# Altium footprint library DIP-CN  0607.PcbLib: 329 footprints (part 3 of 21)
Each footprint in its own frame and in the unit in brackets; x right, y up, seen from the top. Pads: shape width x height; smd on the part's side, far side on the other; paste and mask are expansions set on the pad; w line width, h text height; cw(c..) or ccw(c..) is an arc to the next point about the centre after c.
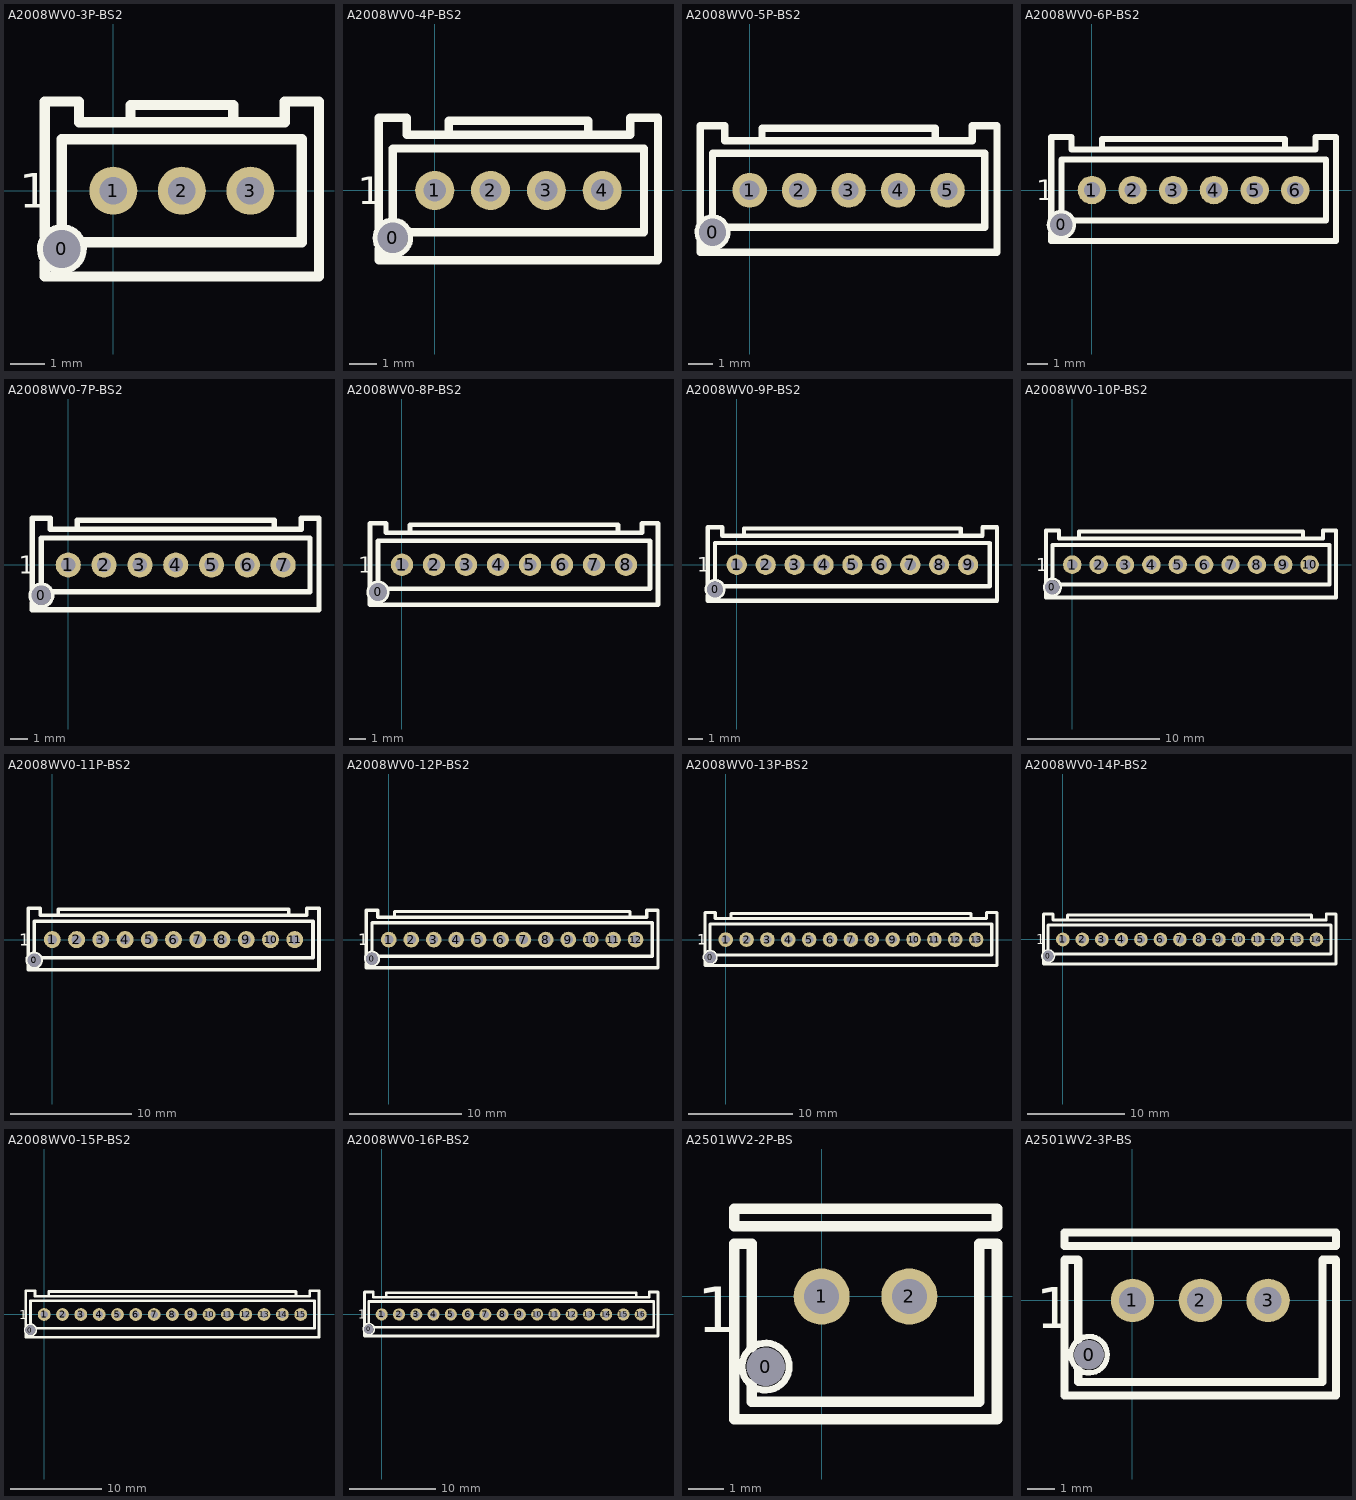
[diagram p2: the footprints below, top view; thin cyan lines are the x and y axes]

## A2008WV0-3P-BS2 [mm]
pads (4):
  round 1 hole 1.1 unplated: 0(-1.5,-1.7)
  round 1.4 hole 0.8: 1(0,0) 2(2,0) 3(4,0)
TopOverlay:
  lines w0.2: -1.974,-2.111 cw(c-1.5,-1.7) -1.962,-2.124
  lines w0.3: -2,-2.1 -2,-2.5 6,-2.5 6,2.6 5,2.6 5,2 -1,2 -1,2.6 -2,2.6 -2,-1.3 ; -1.5,-1 -1.5,1.5 5.5,1.5 5.5,-1.5 -0.9,-1.5 ; 0.5,2 0.5,2.5 3.5,2.5 3.5,2
  text "1" at -2.75,-0.5 h1
BottomOverlay:
  lines w0.3: 1,-0.75 1,0.75 ; 3,-0.75 3,0.75

## A2008WV0-4P-BS2 [mm]
pads (5):
  round 1 hole 1.1 unplated: 0(-1.5,-1.7)
  round 1.4 hole 0.8: 1(0,0) 2(2,0) 3(4,0) 4(6,0)
TopOverlay:
  lines w0.2: -1.974,-2.111 cw(c-1.5,-1.7) -1.962,-2.124
  lines w0.3: -2,-2.1 -2,-2.5 8,-2.5 8,2.6 7,2.6 7,2 -1,2 -1,2.6 -2,2.6 -2,-1.3 ; -1.5,-1 -1.5,1.5 7.5,1.5 7.5,-1.5 -0.9,-1.5 ; 0.5,2 0.5,2.5 5.5,2.5 5.5,2
  text "1" at -2.75,-0.5 h1
BottomOverlay:
  lines w0.3: 1,-0.75 1,0.75 ; 3,-0.75 3,0.75 ; 5,-0.75 5,0.75

## A2008WV0-5P-BS2 [mm]
pads (6):
  round 1 hole 1.1 unplated: 0(-1.5,-1.7)
  round 1.4 hole 0.8: 1(0,0) 2(2,0) 3(4,0) 4(6,0) 5(8,0)
TopOverlay:
  lines w0.2: -1.974,-2.111 cw(c-1.5,-1.7) -1.962,-2.124
  lines w0.3: -2,-2.1 -2,-2.5 10,-2.5 10,2.6 9,2.6 9,2 -1,2 -1,2.6 -2,2.6 -2,-1.3 ; -1.5,-1 -1.5,1.5 9.5,1.5 9.5,-1.5 -0.9,-1.5 ; 0.5,2 0.5,2.5 7.5,2.5 7.5,2
BottomOverlay:
  lines w0.3: 1,-0.75 1,0.75 ; 3,-0.75 3,0.75 ; 5,-0.75 5,0.75 ; 7,-0.75 7,0.75

## A2008WV0-6P-BS2 [mm]
pads (7):
  round 1 hole 1.1 unplated: 0(-1.5,-1.7)
  round 1.4 hole 0.8: 1(0,0) 2(2,0) 3(4,0) 4(6,0) 5(8,0) 6(10,0)
TopOverlay:
  lines w0.2: -1.974,-2.111 cw(c-1.5,-1.7) -1.962,-2.124
  lines w0.3: -2,-2.1 -2,-2.5 12,-2.5 12,2.6 11,2.6 11,2 -1,2 -1,2.6 -2,2.6 -2,-1.3 ; -1.5,-1 -1.5,1.5 11.5,1.5 11.5,-1.5 -0.9,-1.5 ; 0.5,2 0.5,2.5 9.5,2.5 9.5,2
  text "1" at -2.75,-0.5 h1
BottomOverlay:
  lines w0.3: 1,-0.75 1,0.75 ; 3,-0.75 3,0.75 ; 5,-0.75 5,0.75 ; 7,-0.75 7,0.75 ; 9,-0.75 9,0.75

## A2008WV0-7P-BS2 [mm]
pads (8):
  round 1 hole 1.1 unplated: 0(-1.5,-1.7)
  round 1.4 hole 0.8: 1(0,0) 2(2,0) 3(4,0) 4(6,0) 5(8,0) 6(10,0) 7(12,0)
TopOverlay:
  lines w0.2: -1.974,-2.111 cw(c-1.5,-1.7) -1.962,-2.124
  lines w0.3: -2,-2.1 -2,-2.5 14,-2.5 14,2.6 13,2.6 13,2 -1,2 -1,2.6 -2,2.6 -2,-1.3 ; -1.5,-1 -1.5,1.5 13.5,1.5 13.5,-1.5 -0.9,-1.5 ; 0.5,2 0.5,2.5 11.5,2.5 11.5,2
  text "1" at -2.75,-0.5 h1
BottomOverlay:
  lines w0.3: 1,-0.75 1,0.75 ; 3,-0.75 3,0.75 ; 5,-0.75 5,0.75 ; 7,-0.75 7,0.75 ; 9,-0.75 9,0.75 ; 11,-0.75 11,0.75

## A2008WV0-8P-BS2 [mm]
pads (9):
  round 1 hole 1.1 unplated: 0(-1.5,-1.7)
  round 1.4 hole 0.8: 1(0,0) 2(2,0) 3(4,0) 4(6,0) 5(8,0) 6(10,0) 7(12,0) 8(14,0)
TopOverlay:
  lines w0.2: -1.974,-2.111 cw(c-1.5,-1.7) -1.962,-2.124
  lines w0.3: -2,-2.1 -2,-2.5 16,-2.5 16,2.6 15,2.6 15,2 -1,2 -1,2.6 -2,2.6 -2,-1.3 ; -1.5,-1 -1.5,1.5 15.5,1.5 15.5,-1.5 -0.9,-1.5 ; 0.5,2 0.5,2.5 4.5,2.5 13.5,2.5 13.5,2
  text "1" at -2.75,-0.5 h1
BottomOverlay:
  lines w0.3: 1,-0.75 1,0.75 ; 3,-0.75 3,0.75 ; 5,-0.75 5,0.75 ; 7,-0.75 7,0.75 ; 9,-0.75 9,0.75 ; 11,-0.75 11,0.75 ; 13,-0.75 13,0.75

## A2008WV0-9P-BS2 [mm]
pads (10):
  round 1 hole 1.1 unplated: 0(-1.5,-1.7)
  round 1.4 hole 0.8: 1(0,0) 2(2,0) 3(4,0) 4(6,0) 5(8,0) 6(10,0) 7(12,0) 8(14,0) 9(16,0)
TopOverlay:
  lines w0.2: -1.974,-2.111 cw(c-1.5,-1.7) -1.962,-2.124
  lines w0.3: -2,-2.1 -2,-2.5 18,-2.5 18,2.6 17,2.6 17,2 -1,2 -1,2.6 -2,2.6 -2,-1.3 ; -1.5,-1 -1.5,1.5 17.5,1.5 17.5,-1.5 -0.9,-1.5 ; 0.5,2 0.5,2.5 4.5,2.5 15.5,2.5 15.5,2
  text "1" at -2.75,-0.5 h1
BottomOverlay:
  lines w0.3: 1,-0.75 1,0.75 ; 3,-0.75 3,0.75 ; 5,-0.75 5,0.75 ; 7,-0.75 7,0.75 ; 9,-0.75 9,0.75 ; 11,-0.75 11,0.75 ; 13,-0.75 13,0.75 ; 15,-0.75 15,0.75

## A2008WV0-10P-BS2 [mm]
pads (11):
  round 1 hole 1.1 unplated: 0(-1.5,-1.7)
  round 1.4 hole 0.8: 1(0,0) 2(2,0) 3(4,0) 4(6,0) 5(8,0) 6(10,0) 7(12,0) 8(14,0) 9(16,0) 10(18,0)
TopOverlay:
  lines w0.2: -1.974,-2.111 cw(c-1.5,-1.7) -1.962,-2.124
  lines w0.3: -2,-2.1 -2,-2.5 20,-2.5 20,2.6 19,2.6 19,2 -1,2 -1,2.6 -2,2.6 -2,-1.3 ; -1.5,-1 -1.5,1.5 19.5,1.5 19.5,-1.5 -0.9,-1.5 ; 0.5,2 0.5,2.5 4.5,2.5 17.5,2.5 17.5,2
  text "1" at -2.75,-0.5 h1
BottomOverlay:
  lines w0.3: 1,-0.75 1,0.75 ; 3,-0.75 3,0.75 ; 5,-0.75 5,0.75 ; 7,-0.75 7,0.75 ; 9,-0.75 9,0.75 ; 11,-0.75 11,0.75 ; 13,-0.75 13,0.75 ; 15,-0.75 15,0.75 ; 17,-0.75 17,0.75

## A2008WV0-11P-BS2 [mm]
pads (12):
  round 1 hole 1.1 unplated: 0(-1.5,-1.7)
  round 1.4 hole 0.8: 1(0,0) 2(2,0) 3(4,0) 4(6,0) 5(8,0) 6(10,0) 7(12,0) 8(14,0) 9(16,0) 10(18,0) 11(20,0)
TopOverlay:
  lines w0.2: -1.974,-2.111 cw(c-1.5,-1.7) -1.962,-2.124
  lines w0.3: -2,-2.1 -2,-2.5 22,-2.5 22,2.6 21,2.6 21,2 -1,2 -1,2.6 -2,2.6 -2,-1.3 ; -1.5,-1 -1.5,1.5 21.5,1.5 21.5,-1.5 -0.9,-1.5 ; 0.5,2 0.5,2.5 4.5,2.5 19.5,2.5 19.5,2
  text "1" at -2.75,-0.5 h1
BottomOverlay:
  lines w0.3: 1,-0.75 1,0.75 ; 3,-0.75 3,0.75 ; 5,-0.75 5,0.75 ; 7,-0.75 7,0.75 ; 9,-0.75 9,0.75 ; 11,-0.75 11,0.75 ; 13,-0.75 13,0.75 ; 15,-0.75 15,0.75 ; 17,-0.75 17,0.75 ; 19,-0.75 19,0.75

## A2008WV0-12P-BS2 [mm]
pads (13):
  round 1 hole 1.1 unplated: 0(-1.5,-1.7)
  round 1.4 hole 0.8: 1(0,0) 2(2,0) 3(4,0) 4(6,0) 5(8,0) 6(10,0) 7(12,0) 8(14,0) 9(16,0) 10(18,0) 11(20,0) 12(22,0)
TopOverlay:
  lines w0.2: -1.974,-2.111 cw(c-1.5,-1.7) -1.962,-2.124
  lines w0.3: -2,-2.1 -2,-2.5 24,-2.5 24,2.6 23,2.6 23,2 -1,2 -1,2.6 -2,2.6 -2,-1.3 ; -1.5,-1 -1.5,1.5 23.5,1.5 23.5,-1.5 -0.9,-1.5 ; 0.5,2 0.5,2.5 4.5,2.5 21.5,2.5 21.5,2
  text "1" at -2.75,-0.5 h1
BottomOverlay:
  lines w0.3: 1,-0.75 1,0.75 ; 3,-0.75 3,0.75 ; 5,-0.75 5,0.75 ; 7,-0.75 7,0.75 ; 9,-0.75 9,0.75 ; 11,-0.75 11,0.75 ; 13,-0.75 13,0.75 ; 15,-0.75 15,0.75 ; 17,-0.75 17,0.75 ; 19,-0.75 19,0.75 ; 21,-0.75 21,0.75

## A2008WV0-13P-BS2 [mm]
pads (14):
  round 1 hole 1.1 unplated: 0(-1.5,-1.7)
  round 1.4 hole 0.8: 1(0,0) 2(2,0) 3(4,0) 4(6,0) 5(8,0) 6(10,0) 7(12,0) 8(14,0) 9(16,0) 10(18,0) 11(20,0) 12(22,0) 13(24,0)
TopOverlay:
  lines w0.2: -1.974,-2.111 cw(c-1.5,-1.7) -1.962,-2.124
  lines w0.3: -2,-2.1 -2,-2.5 26,-2.5 26,2.6 25,2.6 25,2 -1,2 -1,2.6 -2,2.6 -2,-1.3 ; -1.5,-1 -1.5,1.5 25.5,1.5 25.5,-1.5 -0.9,-1.5 ; 0.5,2 0.5,2.5 4.5,2.5 23.5,2.5 23.5,2
  text "1" at -2.75,-0.5 h1
BottomOverlay:
  lines w0.3: 1,-0.75 1,0.75 ; 3,-0.75 3,0.75 ; 5,-0.75 5,0.75 ; 7,-0.75 7,0.75 ; 9,-0.75 9,0.75 ; 11,-0.75 11,0.75 ; 13,-0.75 13,0.75 ; 15,-0.75 15,0.75 ; 17,-0.75 17,0.75 ; 19,-0.75 19,0.75 ; 21,-0.75 21,0.75 ; 23,-0.75 23,0.75

## A2008WV0-14P-BS2 [mm]
pads (15):
  round 1 hole 1.1 unplated: 0(-1.5,-1.7)
  round 1.4 hole 0.8: 1(0,0) 2(2,0) 3(4,0) 4(6,0) 5(8,0) 6(10,0) 7(12,0) 8(14,0) 9(16,0) 10(18,0) 11(20,0) 12(22,0) 13(24,0) 14(26,0)
TopOverlay:
  lines w0.2: -1.974,-2.111 cw(c-1.5,-1.7) -1.962,-2.124
  lines w0.3: -2,-2.1 -2,-2.5 28,-2.5 28,2.6 27,2.6 27,2 -1,2 -1,2.6 -2,2.6 -2,-1.3 ; -1.5,-1 -1.5,1.5 27.5,1.5 27.5,-1.5 -0.864,-1.499 ; 0.5,2 0.5,2.5 4.5,2.5 25.5,2.5 25.5,2
  text "1" at -2.75,-0.5 h1
BottomOverlay:
  lines w0.3: 1,-0.75 1,0.75 ; 3,-0.75 3,0.75 ; 5,-0.75 5,0.75 ; 7,-0.75 7,0.75 ; 9,-0.75 9,0.75 ; 11,-0.75 11,0.75 ; 13,-0.75 13,0.75 ; 15,-0.75 15,0.75 ; 17,-0.75 17,0.75 ; 19,-0.75 19,0.75 ; 21,-0.75 21,0.75 ; 23,-0.75 23,0.75 ; 25,-0.75 25,0.75

## A2008WV0-15P-BS2 [mm]
pads (16):
  round 1 hole 1.1 unplated: 0(-1.5,-1.7)
  round 1.4 hole 0.8: 1(0,0) 2(2,0) 3(4,0) 4(6,0) 5(8,0) 6(10,0) 7(12,0) 8(14,0) 9(16,0) 10(18,0) 11(20,0) 12(22,0) 13(24,0) 14(26,0) 15(28,0)
TopOverlay:
  lines w0.2: -1.974,-2.111 cw(c-1.5,-1.7) -1.962,-2.124
  lines w0.3: -2,-2.1 -2,-2.5 30,-2.5 30,2.6 29,2.6 29,2 -1,2 -1,2.6 -2,2.6 -2,-1.3 ; -1.5,-1 -1.5,1.5 29.5,1.5 29.5,-1.5 -0.9,-1.5 ; 0.5,2 0.5,2.5 4.5,2.5 27.5,2.5 27.5,2
  text "1" at -2.75,-0.5 h1
BottomOverlay:
  lines w0.3: 1,-0.75 1,0.75 ; 3,-0.75 3,0.75 ; 5,-0.75 5,0.75 ; 7,-0.75 7,0.75 ; 9,-0.75 9,0.75 ; 11,-0.75 11,0.75 ; 13,-0.75 13,0.75 ; 15,-0.75 15,0.75 ; 17,-0.75 17,0.75 ; 19,-0.75 19,0.75 ; 21,-0.75 21,0.75 ; 23,-0.75 23,0.75 ; 25,-0.75 25,0.75 ; 27,-0.75 27,0.75

## A2008WV0-16P-BS2 [mm]
pads (17):
  round 1 hole 1.1 unplated: 0(-1.5,-1.7)
  round 1.4 hole 0.8: 1(0,0) 2(2,0) 3(4,0) 4(6,0) 5(8,0) 6(10,0) 7(12,0) 8(14,0) 9(16,0) 10(18,0) 11(20,0) 12(22,0) 13(24,0) 14(26,0) 15(28,0) 16(30,0)
TopOverlay:
  lines w0.2: -1.984,-2.12 cw(c-1.5,-1.7) -1.972,-2.133
  lines w0.3: -2,-2.137 -2,-2.5 32,-2.5 32,2.6 31,2.6 31,2 -1,2 -1,2.6 -2,2.6 -2,-1.3 ; -1.5,-1 -1.5,1.5 31.5,1.5 31.5,-1.5 -0.9,-1.5 ; 0.5,2 0.5,2.5 4.5,2.5 29.5,2.5 29.5,2
  text "1" at -2.75,-0.5 h1
BottomOverlay:
  lines w0.3: 1,-0.75 1,0.75 ; 3,-0.75 3,0.75 ; 5,-0.75 5,0.75 ; 7,-0.75 7,0.75 ; 9,-0.75 9,0.75 ; 11,-0.75 11,0.75 ; 13,-0.75 13,0.75 ; 15,-0.75 15,0.75 ; 17,-0.75 17,0.75 ; 19,-0.75 19,0.75 ; 21,-0.75 21,0.75 ; 23,-0.75 23,0.75 ; 25,-0.75 25,0.75 ; 27,-0.75 27,0.75 ; 29,-0.75 29,0.75

## A2501WV2-2P-BS [mm]
pads (3):
  round 1 hole 1.1 unplated: 0(-1.6,-2)
  round 1.6 hole 1: 1(0,0) 2(2.5,0)
TopOverlay:
  circle w0.2: c-1.6,-2 r0.671
  lines w0.3: -2,-2.5 -2,-3 4.5,-3 4.5,1.5 5,1.5 5,-3.5 -2.5,-3.5 -2.5,1.5 -2,1.5 -2,-1.45 ; -2.5,2 -2.5,2.5 5,2.5 5,2 -2.5,2
  text "1" at -3.556,-1.016 h1.3
BottomOverlay:
  lines w0.3: 1.25,-1 1.25,1

## A2501WV2-3P-BS [mm]
pads (4):
  round 1 hole 1.1 unplated: 0(-1.6,-2)
  round 1.6 hole 1: 1(0,0) 2(2.5,0) 3(5,0)
TopOverlay:
  circle w0.2: c-1.6,-2 r0.671
  lines w0.3: -2,-2.55 -2,-3 7,-3 7,1.5 7.5,1.5 7.5,-3.5 -2.5,-3.5 -2.5,1.5 -2,1.5 -2,-1.45 ; -2.5,2 -2.5,2.5 7.5,2.5 7.5,2 -2.5,2
  text "1" at -3.556,-1.016 h1.5
BottomOverlay:
  lines w0.3: 1.27,-1.009 1.27,0.991 ; 3.759,-1.016 3.759,0.984